# Altium footprint library trafo-siemens.PCBLIB: 39 footprints (part 1 of 3)
Each footprint in its own frame and in the unit in brackets; x right, y up, seen from the top. Pads: shape width x height; smd on the part's side, far side on the other; paste and mask are expansions set on the pad; w line width, h text height; cw(c..) or ccw(c..) is an arc to the next point about the centre after c.
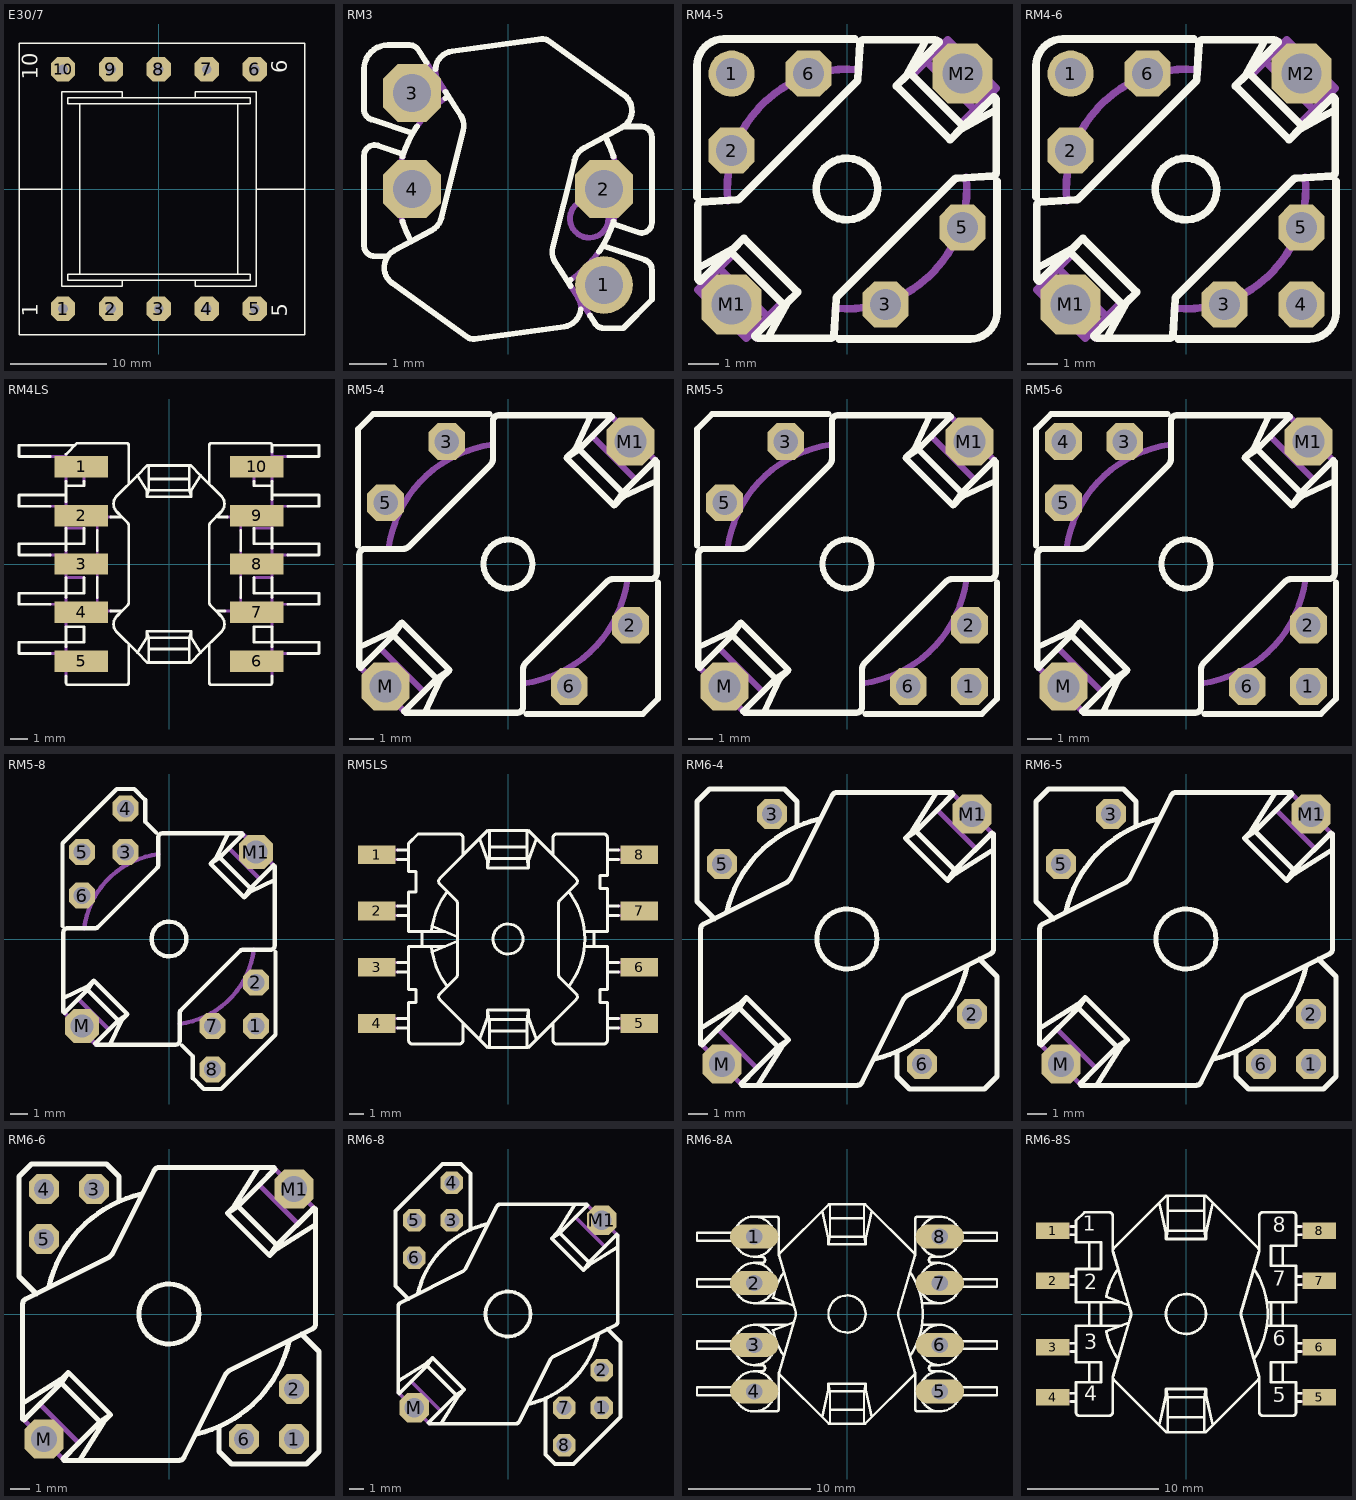
[diagram p0: the footprints below, top view; thin cyan lines are the x and y axes]

## E30/7 [mil]
pads (10):
  oct 100x100 hole 40: 1(-394,-492) 2(-197,-492) 3(0,-492) 4(197,-492) 5(394,-492) 6(394,492) 7(197,492) 8(0,492) 9(-197,492) 10(-394,492)
Top Overlay:
  lines w6: -575,0 -575,-600 600,-600 600,0 ; -575,0 -400,0 ; -575,0 -575,600 600,600 600,0 ; -400,0 -400,400 -150,400 -150,375 ; -400,0 -400,-400 -150,-400 -150,-375 ; -325,-350 -325,350 ; -325,-350 -375,-350 -375,-375 -150,-375 ; -325,-350 325,-350 ; -325,350 -375,350 -375,375 -150,375 ; -325,350 325,350 ; -150,-375 150,-375 ; -150,375 150,375 ; 150,-375 150,-400 400,-400 400,0 ; 150,-375 375,-375 375,-350 325,-350 ; 150,375 375,375 375,350 325,350 ; 150,375 150,400 400,400 400,0 ; 325,-350 325,350 ; 400,0 600,0
  text "1" at -475,-525 h108.5
  text "5" at 550,-525 h108.5
  text "6" at 550,475 h108.5
  text "10" at -475,450 h108.5

## RM3 [mil]
pads (4):
  round 60 hole 40: 1(100,-100)
  oct 60x60 hole 40: 2(100,0) 3(-100,100) 4(-100,0)
Top Overlay:
  lines w6: -135.52,45.17 -109.1,36.37 ; -135.52,45.19 ccw(c-138.99,34.74) -150,34.74 -150,-59 ccw(c-139,-59) -139,-70 -125.16,-70 ; -118.5,-64.18 -79.29,-42.96 ccw(c-88.81,-25.36) -69.4,-30.22 -46.61,60.92 ccw(c-66.01,65.76) -49.2,76.59 -65.02,101.2 ; -118.51,-64.16 ccw(c-108.99,-81.76) -120.66,-98.01 -42.22,-154.37 ccw(c-36.38,-146.24) -35.03,-156.16 58.5,-143.41 ccw(c55.8,-123.59) 75.74,-125.22 ; -110,-33.54 ccw(c-0.01,-0.01) -101.12,-54.77 ; -110,33.54 cw(c-0.01,0.01) -94.58,65.42 ; -99.25,58.08 -142.48,72.49 cw(c-139,82.92) -150,82.93 -150,125 cw(c-125,125) -125,150 -102.76,150 cw(c-102.76,139) -93.52,144.97 -84.69,131.47 ; -75.61,125.1 cw(c-55.66,123.61) -58.36,143.43 35.03,156.16 cw(c36.38,146.24) 42.22,154.37 120.77,97.93 ; -65.42,94.58 cw(c-0.11,-0.01) -62.16,96.75 ; 62.26,-96.69 ccw(c-0.07,0.07) 65.42,-94.58 ; 65.01,-100.96 49.24,-76.43 cw(c66.05,-65.6) 46.65,-60.76 69.37,30.06 cw(c88.78,25.2) 79.26,42.8 118.61,64.09 ccw(c109.09,81.68) 120.76,97.92 ; 85.29,-131.76 90.59,-139.97 ccw(c99.82,-134) 99.83,-144.99 120,-145 150,-115 150,-84.29 ccw(c139,-84.28) 142.57,-73.88 98.79,-58.87 ; 94.58,-65.42 ccw(c0.01,-0.01) 110,-33.54 ; 101.18,54.67 cw(c-0.02,0.02) 110,33.54 ; 109.1,-36.37 135.52,-45.17 ccw(c138.99,-34.73) 149.99,-34.74 150,54 ccw(c139,54) 139,65 120.12,65
Mechanical 16:
  circle w6: c84.57,-30.78 r20
  lines w6: -110,-33.54 cw(c0,0) -110,33.54 ; -94.58,65.42 cw(c0.01,-0.01) -65.42,94.58 ; -84.69,131.47 -72.54,112.92 ; -75.61,125.1 ccw(c-55.66,123.63) -72.48,112.8 -65.02,101.2 ; 65.01,-100.96 72.62,-112.78 cw(c55.8,-123.59) 75.73,-125.22 ; 65.42,-94.58 ccw(c-0.01,0.01) 94.58,-65.42 ; 72.91,-112.59 85.29,-131.76 ; 110,-33.54 ccw(c0,0) 110,33.54

## RM4-5 [mil]
pads (7):
  round 60 hole 40: 1(-150,150)
  oct 60x60 hole 40: 2(-150,50) 3(50,-150) 5(150,-50) 6(-50,150)
  oct 78x78 hole 52: M1(-150,-150) M2(150,150)
Top Overlay:
  circle w10: c0,0 r40
  lines w10: -195,-10 -195,160 cw(c-160,160) -160,195 10,195 ; -194.1,-22 cw(c-189,-21.98) -190,-16.98 -143,-14 ; -194,-103 -148,-78 ; -194,-22 -194,-115 ccw(c-189,-115) -193,-118 ; -191,-120 -148,-78 ; -148,-85 -85,-148 ; -120,-191 -78,-148 ; -119,-192 ccw(c-114.99,-188) -116.11,-193.55 ; -115,-194 -22,-194 ccw(c-22,-189) -17.09,-189.98 ; -103,-194 -78,-148 ; -17,-190 -14,-143 cw(c-9,-143) -13,-140 140,13 cw(c143,9) 143,14 190,17 ccw(c189,21.98) 194.08,22 ; -10,-195 160,-195 ccw(c160,-160) 195,-160 195,10 ; 17,190 14,143 cw(c9,143) 13,140 -140,-13 ; 17.1,189.98 cw(c21.99,189) 22,193.99 114,194 ; 85,148 148,85 ; 103,194 78,148 ; 115.11,193.55 cw(c113.99,188) 118,192 ; 120,191 78,148 ; 191,120 148,78 ; 193,118 cw(c189,115) 194,115 194,22 ; 194,103 148,78 ; -148,-78 -134,-64 -64,-134 -78,-148 ; -143,-14 ccw(c-143,-9) -140,-13 ; -143,-14 ccw(c-143,-9) -140,-13 ; 78,148 64,134 134,64 148,78
Mechanical 16:
  lines w10: -193,-118 -187,-124 ; -155,-15 cw(c0,0) 15,155 ; -148,-85 -166,-103 ; -124,-187 -118,-193 ; -85,-148 -103,-166 ; -15,-155 ccw(c0,0) 155,15 ; 85,148 103,166 ; 119,192 124,187 ; 148,85 166,103 ; 193,118 187,124 ; -187,-124 -194,-131 -131,-194 -103,-166 ; -187,-124 -166,-103 ; -166,-103 -103,-166 ; 103,166 131,194 194,131 187,124 ; 103,166 166,103 ; 166,103 187,124

## RM4-6 [mil]
pads (8):
  round 60 hole 40: 1(-150,150)
  oct 60x60 hole 40: 2(-150,50) 3(50,-150) 4(150,-150) 5(150,-50) 6(-50,150)
  oct 78x78 hole 52: M1(-150,-150) M2(150,150)
Top Overlay:
  circle w10: c0,0 r40
  lines w10: -195,-10 -195,160 cw(c-160,160) -160,195 10,195 ; -194.1,-22 cw(c-189,-21.98) -190,-16.98 -143,-14 ; -194,-103 -148,-78 ; -194,-22 -194,-115 ccw(c-189,-115) -193,-118 ; -191,-120 -148,-78 ; -148,-85 -85,-148 ; -120,-191 -78,-148 ; -119,-192 ccw(c-114.99,-188) -116.11,-193.55 ; -115,-194 -22,-194 ccw(c-22,-189) -17.09,-189.98 ; -103,-194 -78,-148 ; -17,-190 -14,-143 cw(c-9,-143) -13,-140 140,13 cw(c143,9) 143,14 190,17 ccw(c189,21.98) 194.08,22 ; -10,-195 160,-195 ccw(c160,-160) 195,-160 195,10 ; 17,190 14,143 cw(c9,143) 13,140 -140,-13 ; 17.1,189.98 cw(c21.99,189) 22,193.99 114,194 ; 85,148 148,85 ; 103,194 78,148 ; 115.11,193.55 cw(c113.99,188) 118,192 ; 120,191 78,148 ; 191,120 148,78 ; 193,118 cw(c189,115) 194,115 194,22 ; 194,103 148,78 ; -148,-78 -134,-64 -64,-134 -78,-148 ; -143,-14 ccw(c-143,-9) -140,-13 ; -143,-14 ccw(c-143,-9) -140,-13 ; 78,148 64,134 134,64 148,78
Mechanical 16:
  lines w10: -193,-118 -187,-124 ; -155,-15 cw(c0,0) 15,155 ; -148,-85 -166,-103 ; -124,-187 -118,-193 ; -85,-148 -103,-166 ; -15,-155 ccw(c0,0) 155,15 ; 85,148 103,166 ; 119,192 124,187 ; 148,85 166,103 ; 193,118 187,124 ; -187,-124 -194,-131 -131,-194 -103,-166 ; -187,-124 -166,-103 ; -166,-103 -103,-166 ; 103,166 131,194 194,131 187,124 ; 103,166 166,103 ; 166,103 187,124

## RM4LS [mil]
pads (10):
  rect 120x48 smd: 1(-196,217) 2(-196,108) 3(-196,0) 4(-196,-108) 5(-196,-217) 6(196,-217) 7(196,-108) 8(196,0) 9(196,108) 10(196,217)
Top Overlay:
  lines w6: -265,-200 -335,-200 -335,-175 -230,-175 ; -265,-90 -335,-90 -335,-65 -230,-65 ; -265,20 -335,20 -335,45 -230,45 ; -265,129 -335,129 -335,154 -230,154 ; -265,240 -335,240 -335,265 -210,265 ; -230,-250 -230,-265 ccw(c-225,-265) -225,-270 -95,-270 ccw(c-95,-265) -90,-265 -90,-180 ; -230,-185 -230,-175 ; -230,-75 -230,-65 ; -230,-30 -230,-65 ; -230,30 -230,45 ; -230,80 -230,45 ; -230,139 -230,154 ; -230,185 -230,175 ; -230,245 -205,270 -95,270 cw(c-95,265) -90,265 -90,180 ; -190,-30 -190,-65 -230,-65 ; -190,80 -190,45 -230,45 ; -190,185 -190,175 -230,175 ; -160,-75 -160,-30 ; -160,30 -160,75 ; -130,-105 -105,-105 ; -130,105 -105,105 ; -45,-220 -45,-190 ; -45,220 -45,190 ; 45,-220 45,-190 ; 45,220 45,190 ; 90,-180 90,-265 ccw(c95,-265) 95,-270 225,-270 ccw(c225,-265) 230,-265 230,-250 ; 90,180 90,265 cw(c95,265) 95,270 225,270 cw(c225,265) 230,265 ; 110,105 130,105 ; 125,-105 105,-105 ; 160,-75 160,-30 ; 160,30 160,75 ; 190,-30 190,-65 230,-65 ; 190,80 190,45 230,45 ; 190,185 190,175 230,175 ; 230,-185 230,-175 ; 230,-75 230,-65 ; 230,-30 230,-65 ; 230,35 230,45 ; 230,80 230,45 ; 230,144 230,154 ; 230,185 230,175 ; 230,250 230,265 ; 265,-200 335,-200 335,-175 230,-175 ; 265,-90 335,-90 335,-65 230,-65 ; 265,20 335,20 335,45 230,45 ; 265,129 335,129 335,154 230,154 ; 265,240 335,240 335,265 230,265 ; -230,-175 -230,-140 -190,-140 -190,-175 -230,-175 ; -230,154 -230,175 ; -105,-105 -92.93,-92.93 ccw(c-100,-85.84) -89.99,-85.86 -90,85.86 ccw(c-100,85.86) -92.93,92.93 -105,105 ; -105,-105 -116.67,-116.67 ccw(c-98.99,-134.35) -116.67,-152.03 -70.65,-198.05 ; -105,105 -116.67,116.67 cw(c-98.99,134.35) -116.67,152.03 -70.65,198.05 ; -70.65,-198.05 -48.7,-220 48.7,-220 70.65,-198.05 ; -70.65,-198.05 -50,-165 -50,-150 ; -70.65,198.05 -48.7,220 48.7,220 70.65,198.05 ; -70.65,198.05 -50,165 -50,150 ; -50,-150 50,-150 ; -50,-150 -45,-165 ; -50,150 50,150 ; -50,150 -45,165 ; -45,-190 -45,-165 ; -45,-190 45,-190 ; -45,-165 45,-165 ; -45,165 -45,190 ; -45,165 45,165 ; -45,190 45,190 ; 45,-190 45,-165 ; 45,-165 50,-150 ; 45,165 45,190 ; 45,165 50,150 ; 50,-150 50,-165 70.65,-198.05 ; 50,150 50,165 70.65,198.05 ; 70.65,-198.05 116.67,-152.03 ccw(c98.99,-134.35) 116.67,-116.67 105,-105 ; 70.65,198.05 116.67,152.03 cw(c98.99,134.35) 116.67,116.67 92.93,92.93 ccw(c100,85.86) 90,85.86 90,-85.86 ccw(c100,-85.86) 92.93,-92.93 105,-105 ; 230,-175 230,-140 190,-140 190,-175 230,-175 ; 230,154 230,175
Mechanical 16:
  lines w6: -265,-200 -230,-200 ; -265,-90 -230,-90 ; -265,20 -230,20 ; -265,129 -230,129 ; -265,240 -230,240 ; -230,-250 -230,-230 ; -230,-185 -230,-200 ; -230,-140 -230,-120 ; -230,-75 -230,-90 ; -230,30 -230,20 ; -230,139 -230,129 ; -230,185 -230,210 ; -230,245 -230,240 ; -190,-30 -230,-30 -230,-10 ; -190,80 -230,80 -230,99 ; -190,185 -190,210 -230,210 ; -160,-75 -160,-105 -130,-105 ; -160,-30 -160,30 ; -160,75 -160,105 -130,105 ; 125,-105 160,-105 160,-75 ; 130,105 160,105 160,75 ; 160,-30 160,30 ; 190,-30 230,-30 230,-10 ; 190,80 230,80 230,99 ; 190,185 190,210 230,210 ; 230,-250 230,-230 ; 230,-185 230,-200 ; 230,-140 230,-120 ; 230,-75 230,-90 ; 230,35 230,20 ; 230,144 230,129 ; 230,185 230,210 ; 230,250 230,240 ; 265,-200 230,-200 ; 265,-90 230,-90 ; 265,20 230,20 ; 265,129 230,129 ; 265,240 230,240 ; -230,-230 -230,-210 ; -230,-230 -245,-230 -245,-210 -230,-210 ; -230,-210 -230,-200 ; -230,-120 -230,-100 ; -230,-120 -245,-120 -245,-100 -230,-100 ; -230,-100 -230,-90 ; -230,-10 -230,10 ; -230,-10 -245,-10 -245,10 -230,10 ; -230,10 -230,20 ; -230,99 -230,119 ; -230,99 -245,99 -245,119 -230,119 ; -230,119 -230,129 ; -230,210 -230,230 ; -230,210 -245,210 -245,230 -230,230 ; -230,230 -230,240 ; 230,-230 230,-210 ; 230,-230 245,-230 245,-210 230,-210 ; 230,-210 230,-200 ; 230,-120 230,-100 ; 230,-120 245,-120 245,-100 230,-100 ; 230,-100 230,-90 ; 230,-10 230,10 ; 230,-10 245,-10 245,10 230,10 ; 230,10 230,20 ; 230,99 230,119 ; 230,99 245,99 245,119 230,119 ; 230,119 230,129 ; 230,210 230,230 ; 230,210 245,210 245,230 230,230 ; 230,230 230,240
  text "1" at -125,200 h77.5
  text "5" at -130,-240 h77.5
  text "6" at 175,-240 h77.5
  text "10" at 175,165 h77.5

## RM5-4 [mil]
pads (6):
  oct 60x60 hole 40: 2(200,-100) 3(-100,200) 5(-200,100) 6(100,-200)
  oct 78x78 hole 52: M(-200,-200) M1(200,200)
Top Overlay:
  circle w10: c0,0 r40
  lines w10: -245,30 -245,220 -220,245 -30,245 ; -243.03,-136.04 -187.38,-109.6 -173.24,-95.46 ; -169.7,-240.42 -116.67,-187.38 ; -167.09,-243.03 15.59,-243.05 ccw(c14.74,-233.09) 24.74,-233.08 24.75,-170.31 cw(c34.75,-170.31) 27.68,-163.24 163.24,-27.68 cw(c170.31,-34.75) 170.31,-24.75 233.08,-24.75 ccw(c233.07,-14.75) 243.04,-15.59 243.03,167.09 240.42,169.7 187.38,116.67 ; -136.04,-243.03 -109.6,-187.38 -95.46,-173.24 ; 30,-245 220,-245 245,-220 245,-30 ; 136.04,243.03 109.6,187.38 95.46,173.24 ; 167.09,243.03 -15.59,243.05 ; 169.7,240.42 137.89,208.6 116.67,187.38 ; 243.03,136.04 187.38,109.6 173.24,95.46 ; -187.38,-116.67 -116.67,-187.38 ; -187.38,-116.67 -240.42,-169.7 -243.03,-167.09 -243.05,15.59 cw(c-233.07,14.74) -233.08,24.76 -170.31,24.75 ccw(c-170.31,34.75) -163.24,27.68 -27.68,163.24 ccw(c-34.75,170.31) -24.75,170.31 -24.75,233.08 ; -187.38,-116.67 -173.24,-95.46 ; -173.24,-95.46 -95.46,-173.24 ; -116.67,-187.38 -95.46,-173.24 ; -24.75,233.08 cw(c-14.74,233.09) -15.59,243.06 ; -24.75,233.08 cw(c-14.74,233.09) -15.59,243.06 ; 95.46,173.24 173.24,95.46 ; 95.46,173.24 116.67,187.38 ; 116.67,187.38 187.38,116.67 ; 173.24,95.46 187.38,116.67
Mechanical 16:
  lines w10: -240.42,-169.7 -167.09,-243.03 ; -208.6,-137.89 -137.89,-208.6 ; -195,25 cw(c0,0) -25,195 ; 25,-195 ccw(c0,0) 195,-25 ; 137.89,208.6 208.6,137.89 ; 167.09,243.03 240.42,169.7

## RM5-5 [mil]
pads (7):
  oct 60x60 hole 40: 1(200,-200) 2(200,-100) 3(-100,200) 5(-200,100) 6(100,-200)
  oct 78x78 hole 52: M(-200,-200) M1(200,200)
Top Overlay:
  circle w10: c0,0 r40
  lines w10: -245,30 -245,220 -220,245 -30,245 ; -243.03,-136.04 -187.38,-109.6 -173.24,-95.46 ; -169.7,-240.42 -116.67,-187.38 ; -167.09,-243.03 15.59,-243.05 ccw(c14.74,-233.09) 24.74,-233.08 24.75,-170.31 cw(c34.75,-170.31) 27.68,-163.24 163.24,-27.68 cw(c170.31,-34.75) 170.31,-24.75 233.08,-24.75 ccw(c233.07,-14.75) 243.04,-15.59 243.03,167.09 240.42,169.7 187.38,116.67 ; -136.04,-243.03 -109.6,-187.38 -95.46,-173.24 ; 30,-245 220,-245 245,-220 245,-30 ; 136.04,243.03 109.6,187.38 95.46,173.24 ; 167.09,243.03 -15.59,243.05 ; 169.7,240.42 137.89,208.6 116.67,187.38 ; 243.03,136.04 187.38,109.6 173.24,95.46 ; -187.38,-116.67 -116.67,-187.38 ; -187.38,-116.67 -240.42,-169.7 -243.03,-167.09 -243.05,15.59 cw(c-233.07,14.74) -233.08,24.76 -170.31,24.75 ccw(c-170.31,34.75) -163.24,27.68 -27.68,163.24 ccw(c-34.75,170.31) -24.75,170.31 -24.75,233.08 ; -187.38,-116.67 -173.24,-95.46 ; -173.24,-95.46 -95.46,-173.24 ; -116.67,-187.38 -95.46,-173.24 ; -24.75,233.08 cw(c-14.74,233.09) -15.59,243.06 ; -24.75,233.08 cw(c-14.74,233.09) -15.59,243.06 ; 95.46,173.24 173.24,95.46 ; 95.46,173.24 116.67,187.38 ; 116.67,187.38 187.38,116.67 ; 173.24,95.46 187.38,116.67
Mechanical 16:
  lines w10: -240.42,-169.7 -167.09,-243.03 ; -208.6,-137.89 -137.89,-208.6 ; -195,25 cw(c0,0) -25,195 ; 25,-195 ccw(c0,0) 195,-25 ; 137.89,208.6 208.6,137.89 ; 167.09,243.03 240.42,169.7

## RM5-6 [mil]
pads (8):
  oct 60x60 hole 40: 1(200,-200) 2(200,-100) 3(-100,200) 4(-200,200) 5(-200,100) 6(100,-200)
  oct 78x78 hole 52: M(-200,-200) M1(200,200)
Top Overlay:
  circle w10: c0,0 r40
  lines w10: -245,30 -245,220 -220,245 -30,245 ; -243.03,-136.04 -187.38,-109.6 -173.24,-95.46 ; -169.7,-240.42 -116.67,-187.38 ; -167.09,-243.03 15.59,-243.05 ccw(c14.74,-233.09) 24.74,-233.08 24.75,-170.31 cw(c34.75,-170.31) 27.68,-163.24 163.24,-27.68 cw(c170.31,-34.75) 170.31,-24.75 233.08,-24.75 ccw(c233.07,-14.75) 243.04,-15.59 243.03,167.09 240.42,169.7 187.38,116.67 ; -136.04,-243.03 -109.6,-187.38 -95.46,-173.24 ; 30,-245 220,-245 245,-220 245,-30 ; 136.04,243.03 109.6,187.38 95.46,173.24 ; 167.09,243.03 -15.59,243.05 ; 169.7,240.42 137.89,208.6 116.67,187.38 ; 243.03,136.04 187.38,109.6 173.24,95.46 ; -187.38,-116.67 -116.67,-187.38 ; -187.38,-116.67 -240.42,-169.7 -243.03,-167.09 -243.05,15.59 cw(c-233.07,14.74) -233.08,24.76 -170.31,24.75 ccw(c-170.31,34.75) -163.24,27.68 -27.68,163.24 ccw(c-34.75,170.31) -24.75,170.31 -24.75,233.08 ; -187.38,-116.67 -173.24,-95.46 ; -173.24,-95.46 -95.46,-173.24 ; -116.67,-187.38 -95.46,-173.24 ; -24.75,233.08 cw(c-14.74,233.09) -15.59,243.06 ; -24.75,233.08 cw(c-14.74,233.09) -15.59,243.06 ; 95.46,173.24 173.24,95.46 ; 95.46,173.24 116.67,187.38 ; 116.67,187.38 187.38,116.67 ; 173.24,95.46 187.38,116.67
Mechanical 16:
  lines w10: -240.42,-169.7 -167.09,-243.03 ; -208.6,-137.89 -137.89,-208.6 ; -195,25 cw(c0,0) -25,195 ; 25,-195 ccw(c0,0) 195,-25 ; 137.89,208.6 208.6,137.89 ; 167.09,243.03 240.42,169.7

## RM5-8 [mil]
pads (10):
  oct 60x60 hole 40: 1(200,-200) 2(200,-100) 3(-100,200) 4(-100,300) 5(-200,200) 6(-200,100) 7(100,-200) 8(100,-300)
  oct 78x78 hole 52: M(-200,-200) M1(200,200)
Top Overlay:
  circle w10: c0,0 r40
  lines w10: -245,30 -245,220 -120,345 -80,345 -55,320 -55,270 -30,245 ; -243.03,-136.04 -187.38,-109.6 -173.24,-95.46 ; -169.7,-240.42 -116.67,-187.38 ; -167.09,-243.03 15.59,-243.05 ccw(c14.74,-233.09) 24.74,-233.08 24.75,-170.31 cw(c34.75,-170.31) 27.68,-163.24 163.24,-27.68 cw(c170.31,-34.75) 170.31,-24.75 233.08,-24.75 ccw(c233.07,-14.75) 243.04,-15.59 243.03,167.09 240.42,169.7 187.38,116.67 ; -136.04,-243.03 -109.6,-187.38 -95.46,-173.24 ; 30,-245 55,-270 55,-320 80,-345 120,-345 245,-220 245,-30 ; 136.04,243.03 109.6,187.38 95.46,173.24 ; 167.09,243.03 -15.59,243.05 ; 169.7,240.42 137.89,208.6 116.67,187.38 ; 243.03,136.04 187.38,109.6 173.24,95.46 ; -187.38,-116.67 -116.67,-187.38 ; -187.38,-116.67 -240.42,-169.7 -243.03,-167.09 -243.05,15.59 cw(c-233.07,14.74) -233.08,24.76 -170.31,24.75 ccw(c-170.31,34.75) -163.24,27.68 -27.68,163.24 ccw(c-34.75,170.31) -24.75,170.31 -24.75,233.08 ; -187.38,-116.67 -173.24,-95.46 ; -173.24,-95.46 -95.46,-173.24 ; -116.67,-187.38 -95.46,-173.24 ; -24.75,233.08 cw(c-14.74,233.09) -15.59,243.06 ; -24.75,233.08 cw(c-14.74,233.09) -15.59,243.06 ; 95.46,173.24 173.24,95.46 ; 95.46,173.24 116.67,187.38 ; 116.67,187.38 187.38,116.67 ; 173.24,95.46 187.38,116.67
Mechanical 16:
  lines w10: -240.42,-169.7 -167.09,-243.03 ; -208.6,-137.89 -137.89,-208.6 ; -195,25 cw(c0,0) -25,195 ; 25,-195 ccw(c0,0) 195,-25 ; 137.89,208.6 208.6,137.89 ; 167.09,243.03 240.42,169.7

## RM5LS [mil]
pads (8):
  rect 100x50 smd: 1(-350,225) 2(-350,75) 3(-350,-75) 4(-350,-225) 5(350,-225) 6(350,-75) 7(350,75) 8(350,225)
Top Overlay:
  circle w8: c0,0 r40
  lines w8: -295,-237.5 -265,-237.5 ; -295,-212.5 -265,-212.5 ; -295,-87.5 -265,-87.5 ; -295,-62.5 -265,-62.5 ; -295,62.5 -265,62.5 ; -295,87.5 -265,87.5 ; -295,212.5 -265,212.5 ; -295,237.5 -265,237.5 ; -204.02,-20 ccw(c0,-0.01) -161.4,-126.4 ; -204.02,20 cw(c0,0.01) -161.4,126.4 ; -202.19,-33.84 -135,-6.18 ; -202.19,33.84 -135,6.18 ; -168.57,-20 -230,-20 ; -168.57,20 -230,20 ; -120,-225 -120,-270 cw(c-130,-270) -130,-280 -255,-280 cw(c-255,-270) -265,-270 -265,-237.5 ; -120,225 -120,270 ccw(c-130,270) -130,280 -240,280 -265,255 -265,237.5 ; -75.65,-268.05 -55,-210 -55,-190 ; -75.65,268.05 -55,210 -55,190 ; -50,-245 50,-245 ; -50,245 50,245 ; 75.65,-268.05 55,-210 55,-190 ; 75.65,268.05 55,210 55,190 ; 120,-225 120,-270 ccw(c130,-270) 130,-280 255,-280 ccw(c255,-270) 265,-270 265,-237.5 ; 120,225 120,270 cw(c130,270) 130,280 255,280 cw(c255,270) 265,270 265,237.5 ; 161.4,-126.4 ccw(c0,0) 161.4,126.4 ; 182.52,160.47 cw(c174.89,154.02) 181.96,146.96 137.93,102.93 ccw(c145,95.86) 135,95.86 135,-95.86 ccw(c145,-95.86) 137.93,-102.93 181.96,-146.96 cw(c174.89,-154.03) 182.53,-160.48 53.7,-290 50,-290 ; 182.53,160.48 53.7,290 50,290 ; 204.02,-20 265,-20 265,-62.5 ; 204.02,20 265,20 265,62.5 ; 230,-20 230,20 ; 295,-237.5 265,-237.5 ; 295,-212.5 265,-212.5 ; 295,-87.5 265,-87.5 ; 295,-62.5 265,-62.5 ; 295,62.5 265,62.5 ; 295,87.5 265,87.5 ; 295,212.5 265,212.5 ; 295,237.5 265,237.5 ; -265,-237.5 -265,-212.5 ; -265,-212.5 -265,-170 -245,-170 -245,-135 -265,-135 -265,-87.5 ; -265,-87.5 -265,-62.5 ; -265,-62.5 -265,-20 -230,-20 ; -265,62.5 -265,87.5 ; -265,62.5 -265,20 -230,20 ; -265,87.5 -265,125 -245,125 -245,180 -265,180 -265,212.5 ; -265,212.5 -265,237.5 ; -230,-20 -230,20 ; -182.53,160.48 -53.7,290 -50,290 ; -182.53,160.48 ccw(c-174.89,154.03) -181.96,146.96 ; -182.53,160.48 ccw(c-174.89,154.03) -181.96,146.96 ; -181.96,146.96 -137.93,102.93 cw(c-145,95.86) -135,95.86 -135,6.18 ; -135,-6.18 -135,6.18 ; -135,-6.18 -135,-95.86 cw(c-145,-95.84) -137.93,-102.93 -181.96,-146.96 ccw(c-174.89,-154.02) -182.53,-160.48 -53.7,-290 -50,-290 ; -55,-190 -50,-215 ; -55,-190 55,-190 ; -55,190 55,190 ; -55,190 -50,215 ; -50,-290 50,-290 ; -50,-290 -50,-215 ; -50,-215 50,-215 ; -50,215 -50,290 ; -50,215 50,215 ; -50,290 50,290 ; 50,-290 50,-215 ; 50,-215 55,-190 ; 50,215 50,290 ; 50,215 55,190 ; 265,-237.5 265,-212.5 ; 265,-212.5 265,-170 245,-170 245,-135 265,-135 265,-87.5 ; 265,-87.5 265,-62.5 ; 265,62.5 265,87.5 ; 265,87.5 265,135 245,135 245,170 265,170 265,212.5 ; 265,212.5 265,237.5
Mechanical 16:
  lines w8: -295,-237.5 -325,-237.5 ; -295,-212.5 -325,-212.5 ; -295,-87.5 -325,-87.5 ; -295,-62.5 -325,-62.5 ; -295,62.5 -325,62.5 ; -295,87.5 -325,87.5 ; -295,212.5 -325,212.5 ; -295,237.5 -325,237.5 ; 295,-237.5 325,-237.5 ; 295,-212.5 325,-212.5 ; 295,-87.5 325,-87.5 ; 295,-62.5 325,-62.5 ; 295,62.5 325,62.5 ; 295,87.5 325,87.5 ; 295,212.5 375,212.5 375,237.5 335,237.5 ; 295,237.5 325,237.5 ; 325,212.5 325,237.5 ; 335,212.5 335,237.5 ; -335,-237.5 -375,-237.5 -375,-212.5 -335,-212.5 ; -335,-237.5 -325,-237.5 ; -335,-237.5 -335,-212.5 ; -335,-212.5 -325,-212.5 ; -335,-87.5 -375,-87.5 -375,-62.5 -335,-62.5 ; -335,-87.5 -325,-87.5 ; -335,-87.5 -335,-62.5 ; -335,-62.5 -325,-62.5 ; -335,62.5 -375,62.5 -375,87.5 -335,87.5 ; -335,62.5 -325,62.5 ; -335,62.5 -335,87.5 ; -335,87.5 -325,87.5 ; -335,212.5 -375,212.5 -375,237.5 -335,237.5 ; -335,212.5 -325,212.5 ; -335,212.5 -335,237.5 ; -335,237.5 -325,237.5 ; -325,-237.5 -325,-212.5 ; -325,-87.5 -325,-62.5 ; -325,62.5 -325,87.5 ; -325,212.5 -325,237.5 ; 325,-237.5 335,-237.5 ; 325,-237.5 325,-212.5 ; 325,-212.5 335,-212.5 ; 325,-87.5 335,-87.5 ; 325,-87.5 325,-62.5 ; 325,-62.5 335,-62.5 ; 325,62.5 335,62.5 ; 325,62.5 325,87.5 ; 325,87.5 335,87.5 ; 325,237.5 335,237.5 ; 335,-237.5 375,-237.5 375,-212.5 335,-212.5 ; 335,-237.5 335,-212.5 ; 335,-87.5 375,-87.5 375,-62.5 335,-62.5 ; 335,-87.5 335,-62.5 ; 335,62.5 375,62.5 375,87.5 335,87.5 ; 335,62.5 335,87.5

## RM6-4 [mil]
pads (6):
  oct 60x60 hole 40: 2(250,-150) 3(-150,250) 5(-250,150) 6(150,-250)
  oct 78x78 hole 52: M(-250,-250) M1(250,250)
Top Overlay:
  circle w10: c0,0 r60
  lines w10: -292.53,-209.52 -292.62,20.64 cw(c-282.62,20.64) -287.11,29.58 -119.56,113.79 -113.79,119.56 -29.58,287.11 cw(c-20.64,282.62) -20.64,292.63 ; -292.53,-178.47 -215.67,-130.82 -201.52,-116.67 ; -289.91,-212.13 -215.67,-137.89 ; -265,40 -300,75 -300,275 -275,300 -125,300 -100,275 -100,225 ; -240,55 cw(c0,0) -55,240 ; -212.13,-289.91 -180.31,-258.09 -137.89,-215.67 ; -209.52,-292.53 20.64,-292.62 ccw(c20.64,-282.62) 29.58,-287.11 113.79,-119.56 119.56,-113.79 287.11,-29.58 ccw(c282.62,-20.63) 292.63,-20.64 ; -178.47,-292.53 -130.82,-215.67 -116.67,-201.52 ; -20.64,292.62 209.52,292.53 ; 55,-240 ccw(c0,0) 240,-55 ; 100,-225 100,-275 125,-300 275,-300 300,-275 300,-75 265,-40 ; 178.47,292.53 130.82,215.67 116.67,201.52 ; 212.13,289.91 180.31,258.09 137.89,215.67 ; 289.91,212.13 215.67,137.89 ; 292.53,178.47 215.67,130.82 201.52,116.67 ; 292.53,209.52 292.62,-20.64 ; -215.67,-137.89 -137.89,-215.67 ; -215.67,-137.89 -201.52,-116.67 ; -201.52,-116.67 -116.67,-201.52 ; -137.89,-215.67 -116.67,-201.52 ; 116.67,201.52 201.52,116.67 ; 116.67,201.52 137.89,215.67 ; 137.89,215.67 215.67,137.89 ; 201.52,116.67 215.67,137.89
Mechanical 16:
  lines w10: -292.53,-209.52 -209.52,-292.53 ; -258.09,-180.31 -180.31,-258.09 ; 180.31,258.09 258.09,180.31 ; 209.52,292.53 292.53,209.52

## RM6-5 [mil]
pads (7):
  oct 60x60 hole 40: 1(250,-250) 2(250,-150) 3(-150,250) 5(-250,150) 6(150,-250)
  oct 78x78 hole 52: M(-250,-250) M1(250,250)
Top Overlay:
  circle w10: c0,0 r60
  lines w10: -292.53,-209.52 -292.62,20.64 cw(c-282.62,20.64) -287.11,29.58 -119.56,113.79 -113.79,119.56 -29.58,287.11 cw(c-20.64,282.62) -20.64,292.63 ; -292.53,-178.47 -215.67,-130.82 -201.52,-116.67 ; -289.91,-212.13 -215.67,-137.89 ; -265,40 -300,75 -300,275 -275,300 -125,300 -100,275 -100,225 ; -240,55 cw(c0,0) -55,240 ; -212.13,-289.91 -180.31,-258.09 -137.89,-215.67 ; -209.52,-292.53 20.64,-292.62 ccw(c20.64,-282.62) 29.58,-287.11 113.79,-119.56 119.56,-113.79 287.11,-29.58 ccw(c282.62,-20.63) 292.63,-20.64 ; -178.47,-292.53 -130.82,-215.67 -116.67,-201.52 ; -20.64,292.62 209.52,292.53 ; 55,-240 ccw(c0,0) 240,-55 ; 100,-225 100,-275 125,-300 275,-300 300,-275 300,-75 265,-40 ; 178.47,292.53 130.82,215.67 116.67,201.52 ; 212.13,289.91 180.31,258.09 137.89,215.67 ; 289.91,212.13 215.67,137.89 ; 292.53,178.47 215.67,130.82 201.52,116.67 ; 292.53,209.52 292.62,-20.64 ; -215.67,-137.89 -137.89,-215.67 ; -215.67,-137.89 -201.52,-116.67 ; -201.52,-116.67 -116.67,-201.52 ; -137.89,-215.67 -116.67,-201.52 ; 116.67,201.52 201.52,116.67 ; 116.67,201.52 137.89,215.67 ; 137.89,215.67 215.67,137.89 ; 201.52,116.67 215.67,137.89
Mechanical 16:
  lines w10: -292.53,-209.52 -209.52,-292.53 ; -258.09,-180.31 -180.31,-258.09 ; 180.31,258.09 258.09,180.31 ; 209.52,292.53 292.53,209.52

## RM6-6 [mil]
pads (8):
  oct 60x60 hole 40: 1(250,-250) 2(250,-150) 3(-150,250) 4(-250,250) 5(-250,150) 6(150,-250)
  oct 78x78 hole 52: M(-250,-250) M1(250,250)
Top Overlay:
  circle w10: c0,0 r60
  lines w10: -292.53,-209.52 -292.62,20.64 cw(c-282.62,20.64) -287.11,29.58 -119.56,113.79 -113.79,119.56 -29.58,287.11 cw(c-20.64,282.62) -20.64,292.63 ; -292.53,-178.47 -215.67,-130.82 -201.52,-116.67 ; -289.91,-212.13 -215.67,-137.89 ; -265,40 -300,75 -300,275 -275,300 -125,300 -100,275 -100,225 ; -240,55 cw(c0,0) -55,240 ; -212.13,-289.91 -180.31,-258.09 -137.89,-215.67 ; -209.52,-292.53 20.64,-292.62 ccw(c20.64,-282.62) 29.58,-287.11 113.79,-119.56 119.56,-113.79 287.11,-29.58 ccw(c282.62,-20.63) 292.63,-20.64 ; -178.47,-292.53 -130.82,-215.67 -116.67,-201.52 ; -20.64,292.62 209.52,292.53 ; 55,-240 ccw(c0,0) 240,-55 ; 100,-225 100,-275 125,-300 275,-300 300,-275 300,-75 265,-40 ; 178.47,292.53 130.82,215.67 116.67,201.52 ; 212.13,289.91 180.31,258.09 137.89,215.67 ; 289.91,212.13 215.67,137.89 ; 292.53,178.47 215.67,130.82 201.52,116.67 ; 292.53,209.52 292.62,-20.64 ; -215.67,-137.89 -137.89,-215.67 ; -215.67,-137.89 -201.52,-116.67 ; -201.52,-116.67 -116.67,-201.52 ; -137.89,-215.67 -116.67,-201.52 ; 116.67,201.52 201.52,116.67 ; 116.67,201.52 137.89,215.67 ; 137.89,215.67 215.67,137.89 ; 201.52,116.67 215.67,137.89
Mechanical 16:
  lines w10: -292.53,-209.52 -209.52,-292.53 ; -258.09,-180.31 -180.31,-258.09 ; 180.31,258.09 258.09,180.31 ; 209.52,292.53 292.53,209.52

## RM6-8 [mil]
pads (10):
  oct 60x60 hole 40: 1(250,-250) 2(250,-150) 3(-150,250) 4(-150,350) 5(-250,250) 6(-250,150) 7(150,-250) 8(150,-350)
  oct 78x78 hole 52: M(-250,-250) M1(250,250)
Top Overlay:
  circle w10: c0,0 r60
  lines w10: -292.53,-209.52 -292.62,20.64 cw(c-282.62,20.64) -287.11,29.58 -119.56,113.79 -113.79,119.56 -29.58,287.11 cw(c-20.64,282.62) -20.64,292.63 ; -292.53,-178.47 -215.67,-130.82 -201.52,-116.67 ; -289.91,-212.13 -215.67,-137.89 ; -265,40 -300,75 -300,275 -175,400 -125,400 -100,375 -100,225 ; -240,55 cw(c0,0) -55,240 ; -212.13,-289.91 -180.31,-258.09 -137.89,-215.67 ; -209.52,-292.53 20.64,-292.62 ccw(c20.64,-282.62) 29.58,-287.11 113.79,-119.56 119.56,-113.79 287.11,-29.58 ccw(c282.62,-20.63) 292.63,-20.64 ; -178.47,-292.53 -130.82,-215.67 -116.67,-201.52 ; -20.64,292.62 209.52,292.53 ; 55,-240 ccw(c0,0) 240,-55 ; 100,-225 100,-375 125,-400 175,-400 300,-275 300,-75 265,-40 ; 178.47,292.53 130.82,215.67 116.67,201.52 ; 212.13,289.91 180.31,258.09 137.89,215.67 ; 289.91,212.13 215.67,137.89 ; 292.53,178.47 215.67,130.82 201.52,116.67 ; 292.53,209.52 292.62,-20.64 ; -215.67,-137.89 -137.89,-215.67 ; -215.67,-137.89 -201.52,-116.67 ; -201.52,-116.67 -116.67,-201.52 ; -137.89,-215.67 -116.67,-201.52 ; 116.67,201.52 201.52,116.67 ; 116.67,201.52 137.89,215.67 ; 137.89,215.67 215.67,137.89 ; 201.52,116.67 215.67,137.89
Mechanical 16:
  lines w10: -292.53,-209.52 -209.52,-292.53 ; -258.09,-180.31 -180.31,-258.09 ; 180.31,258.09 258.09,180.31 ; 209.52,292.53 292.53,209.52

## RM6-8A [mil]
pads (8):
  oval 156x78 hole 52: 1(-300,250) 2(-300,100) 3(-300,-100) 4(-300,-250) 5(300,-250) 6(300,-100) 7(300,100) 8(300,250)
Top Overlay:
  circle w8: c0,0 r60
  circle w8: c-300,-250 r65
  circle w8: c-300,-100 r65
  circle w8: c-300,250 r65
  circle w8: c-300,100 r65
  circle w8: c300,-250 r65
  circle w8: c300,-100 r65
  circle w8: c300,250 r65
  circle w8: c300,100 r65
  lines w8: -363.79,-262.5 -485,-262.5 -485,-237.5 -363.79,-237.5 ; -363.79,-112.5 -485,-112.5 -485,-87.5 -363.79,-87.5 ; -363.79,87.5 -485,87.5 -485,112.5 -363.79,112.5 ; -363.79,237.5 -485,237.5 -485,262.5 -363.79,262.5 ; -305,315 -230,315 cw(c-230,305) -220,305 -220,190 ; -300,-315 -230,-315 ccw(c-230,-305) -220,-305 -220,-190 ; -300,-185 -275,-185 ccw(c-275,-175) -275,-165 -300,-165 ; -300,-35 -193.33,-35 ; -300,35 -193.33,35 ; -300,165 -275,165 ccw(c-275,175) -275,185 -300,185 ; -203.85,-135.91 cw(c0.01,-0.01) -239.36,-52.26 -171.72,-26.9 ; -203.85,135.91 ccw(c0.01,0.01) -239.36,52.26 -171.72,26.9 ; -80.65,-333.05 -60,-245 -60,-225 ; -80.65,333.05 -60,245 -60,225 ; -55,-310 55,-310 ; -55,355 -55,310 ; 55,355 55,310 ; 80.65,-333.05 60,-245 60,-225 ; 80.65,333.05 60,245 60,225 ; 203.85,-135.91 ccw(c-0.01,0) 203.85,135.91 ; 220,-190 220,-305 ccw(c230,-305) 230,-315 300,-315 ; 220,190 220,305 cw(c230,305) 230,315 300,315 ; 242.49,-35 300,-35 ; 242.49,35 300,35 ; 300,-185 275,-185 cw(c275,-175) 275,-165 300,-165 ; 300,165 275,165 cw(c275,175) 275,185 300,185 ; 363.79,-262.5 485,-262.5 485,-237.5 363.79,-237.5 ; 363.79,-112.5 485,-112.5 485,-87.5 363.79,-87.5 ; 363.79,87.5 485,87.5 485,112.5 363.79,112.5 ; 363.79,237.5 485,237.5 485,262.5 363.79,262.5 ; -171.72,-26.9 -218.94,-187.1 ccw(c-209.44,-190.24) -216.51,-197.32 -58.7,-355 -55,-355 ; -171.72,-26.9 -165,-4.08 -165,4.08 -171.72,26.9 ; -171.72,26.9 -218.94,187.1 cw(c-209.44,190.24) -216.51,197.32 -58.7,355 58.7,355 216.51,197.32 cw(c209.43,190.24) 218.94,187.1 165,4.08 165,-4.08 218.94,-187.1 cw(c209.44,-190.24) 216.51,-197.32 58.7,-355 55,-355 ; -60,-225 -55,-250 ; -60,-225 60,-225 ; -60,225 60,225 ; -60,225 -55,250 ; -55,-355 55,-355 ; -55,-355 -55,-250 ; -55,-250 55,-250 ; -55,250 -55,310 ; -55,250 55,250 ; -55,310 55,310 ; 55,-355 55,-250 ; 55,-250 60,-225 ; 55,250 55,310 ; 55,250 60,225

## RM6-8S [mil]
pads (8):
  rect 100x50 smd: 1(-400,250) 2(-400,100) 3(-400,-100) 4(-400,-250) 5(400,-250) 6(400,-100) 7(400,100) 8(400,250)
Top Overlay:
  circle w8: c0,0 r60
  lines w8: -345,-262.5 -330,-262.5 ; -345,-237.5 -330,-237.5 ; -345,-112.5 -330,-112.5 ; -345,-87.5 -330,-87.5 ; -345,87.5 -330,87.5 ; -345,112.5 -330,112.5 ; -345,237.5 -330,237.5 ; -345,262.5 -330,262.5 ; -290,-205 -290,-145 ; -290,-35 -290,35 ; -290,135 -290,215 ; -255,-35 -255,35 ; -220,-190 -220,-295 cw(c-230,-295) -230,-305 -320,-305 cw(c-320,-295) -330,-295 -330,-262.5 ; -220,190 -220,295 ccw(c-230,295) -230,305 -305,305 -330,280 -330,262.5 ; -203.85,-135.91 cw(c0.01,-0.01) -239.36,-52.26 -171.72,-26.9 ; -203.85,135.91 ccw(c0.01,0.01) -239.36,52.26 -171.72,26.9 ; -193.33,-35 -330,-35 -330,-87.5 ; -193.33,35 -330,35 -330,87.5 ; -80.65,-333.05 -60,-245 -60,-225 ; -80.65,333.05 -60,245 -60,225 ; -55,-310 55,-310 ; -55,310 55,310 ; 80.65,-333.05 60,-245 60,-225 ; 80.65,333.05 60,245 60,225 ; 203.85,-135.91 ccw(c-0.01,0) 203.85,135.91 ; 220,-190 220,-295 ccw(c230,-295) 230,-305 320,-305 ccw(c320,-295) 330,-295 330,-262.5 ; 220,190 220,295 cw(c230,295) 230,305 320,305 cw(c320,295) 330,295 330,262.5 ; 242.49,-35 330,-35 330,-87.5 ; 242.49,35 330,35 330,87.5 ; 255,-35 255,35 ; 290,-205 290,-145 ; 290,-35 290,35 ; 290,145 290,205 ; 345,-262.5 330,-262.5 ; 345,-237.5 330,-237.5 ; 345,-112.5 330,-112.5 ; 345,-87.5 330,-87.5 ; 345,87.5 330,87.5 ; 345,112.5 330,112.5 ; 345,237.5 330,237.5 ; 345,262.5 330,262.5 ; -330,-262.5 -330,-237.5 ; -330,-237.5 -330,-205 -255,-205 -255,-145 -330,-145 -330,-112.5 ; -330,-112.5 -330,-87.5 ; -330,87.5 -330,112.5 ; -330,112.5 -330,135 -255,135 -255,215 -330,215 -330,237.5 ; -330,237.5 -330,262.5 ; -171.72,-26.9 -218.94,-187.1 ccw(c-209.44,-190.24) -216.51,-197.32 -58.7,-355 -55,-355 ; -171.72,-26.9 -165,-4.08 -165,4.08 -171.72,26.9 ; -171.72,26.9 -218.94,187.1 cw(c-209.44,190.24) -216.51,197.32 -58.7,355 -55,355 ; -60,-225 60,-225 ; -60,-225 -55,-250 ; -60,225 60,225 ; -60,225 -55,250 ; -55,-355 55,-355 ; -55,-355 -55,-250 ; -55,-250 55,-250 ; -55,250 55,250 ; -55,250 -55,355 ; -55,355 55,355 ; 55,-355 58.7,-355 216.51,-197.32 ccw(c209.44,-190.24) 218.94,-187.1 165,-4.08 165,4.08 218.94,187.1 ccw(c209.43,190.24) 216.51,197.32 58.7,355 55,355 ; 55,-355 55,-250 ; 55,-250 60,-225 ; 55,250 55,355 ; 55,250 60,225 ; 330,-262.5 330,-237.5 ; 330,-237.5 330,-205 255,-205 255,-145 330,-145 330,-112.5 ; 330,-112.5 330,-87.5 ; 330,87.5 330,112.5 ; 330,112.5 330,145 255,145 255,205 330,205 330,237.5 ; 330,237.5 330,262.5
  text "1" at -310,235 h77.5
  text "4" at -305,-275 h77.5
  text "2" at -305,60 h77.5
  text "3" at -305,-120 h77.5
  text "5" at 260,-280 h77.5
  text "6" at 260,-110 h77.5
  text "7" at 260,70 h77.5
  text "8" at 260,230 h77.5
Mechanical 16:
  lines w8: -395,87.5 -395,112.5 ; -380,87.5 -380,112.5 ; -345,-262.5 -380,-262.5 ; -345,-237.5 -380,-237.5 ; -345,-112.5 -380,-112.5 ; -345,-87.5 -380,-87.5 ; -345,87.5 -435,87.5 -435,112.5 -345,112.5 ; -345,237.5 -380,237.5 ; -345,262.5 -380,262.5 ; 345,-262.5 380,-262.5 ; 345,-237.5 380,-237.5 ; 345,-112.5 380,-112.5 ; 345,-87.5 380,-87.5 ; 345,87.5 435,87.5 435,112.5 345,112.5 ; 345,237.5 380,237.5 ; 345,262.5 380,262.5 ; 380,87.5 380,112.5 ; 395,87.5 395,112.5 ; -395,-262.5 -380,-262.5 ; -395,-262.5 -435,-262.5 -435,-237.5 -395,-237.5 ; -395,-262.5 -395,-237.5 ; -395,-237.5 -380,-237.5 ; -395,-112.5 -435,-112.5 -435,-87.5 -395,-87.5 ; -395,-112.5 -380,-112.5 ; -395,-112.5 -395,-87.5 ; -395,-87.5 -380,-87.5 ; -395,237.5 -435,237.5 -435,262.5 -395,262.5 ; -395,237.5 -380,237.5 ; -395,237.5 -395,262.5 ; -395,262.5 -380,262.5 ; -380,-262.5 -380,-237.5 ; -380,-112.5 -380,-87.5 ; -380,237.5 -380,262.5 ; 380,-262.5 395,-262.5 ; 380,-262.5 380,-237.5 ; 380,-237.5 395,-237.5 ; 380,-112.5 395,-112.5 ; 380,-112.5 380,-87.5 ; 380,-87.5 395,-87.5 ; 380,237.5 395,237.5 ; 380,237.5 380,262.5 ; 380,262.5 395,262.5 ; 395,-262.5 435,-262.5 435,-237.5 395,-237.5 ; 395,-262.5 395,-237.5 ; 395,-112.5 435,-112.5 435,-87.5 395,-87.5 ; 395,-112.5 395,-87.5 ; 395,237.5 435,237.5 435,262.5 395,262.5 ; 395,237.5 395,262.5